# Altium schematic symbol library LPC4088.SchLib: 1 symbol
Pins are listed as number, name and electrical type; pins without a type are passive.

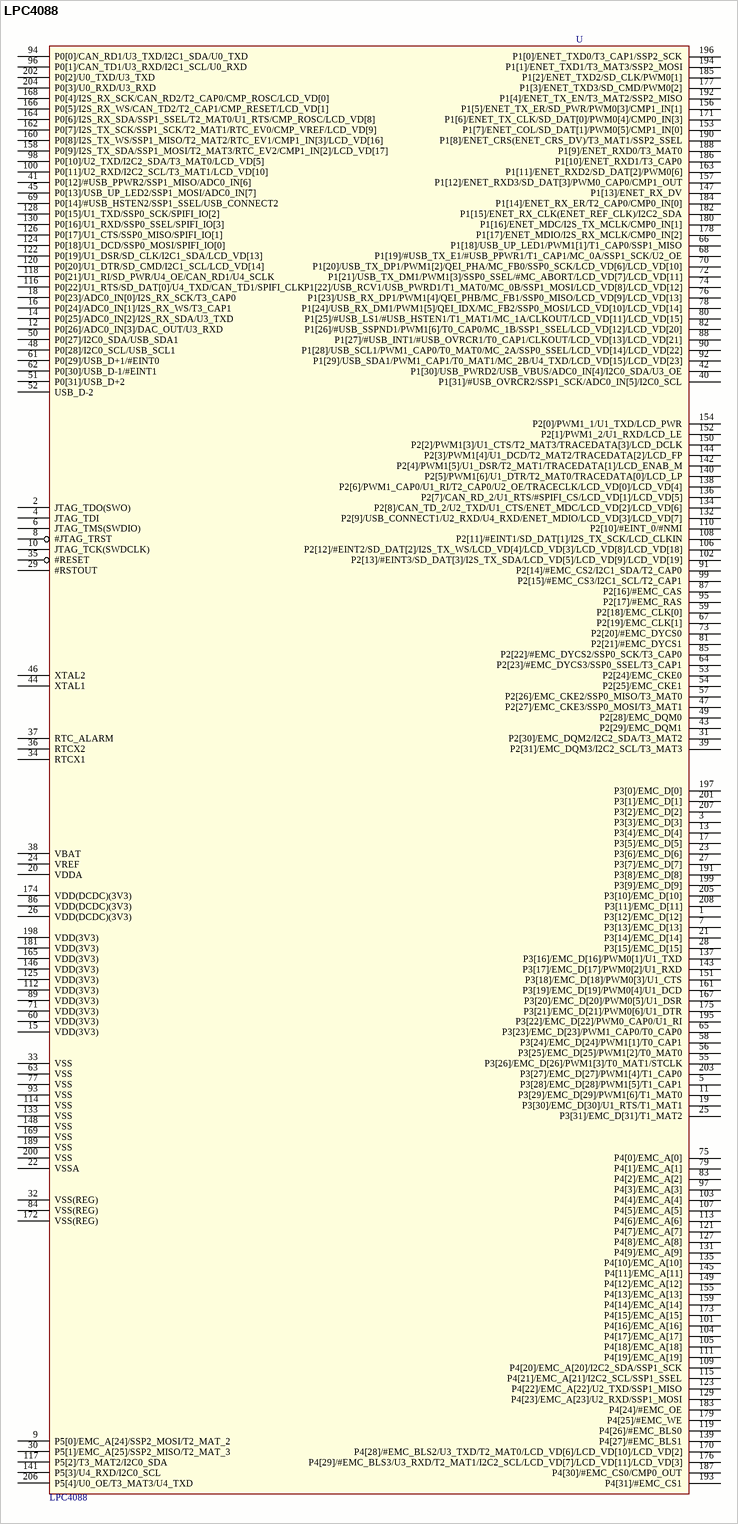
[diagram p0: symbol LPC4088]

## LPC4088
designator U  value LPC4088  (hidden comment: *)
Manufacturer Code: LPC4088FBD208,551; Manufacturer: NXP Semiconductors; Farnell Code: 2285014; Unit Price: 11,58 €
footprint LQFP-208 (Footprint not found)
pins: 1 P3[12]/EMC_D[12], 2 JTAG_TDO(SWO), 3 P3[3]/EMC_D[3], 4 JTAG_TDI, 5 P3[28]/EMC_D[28]/PWM1[5]/T1_CAP1, 6 JTAG_TMS(SWDIO), 7 P3[13]/EMC_D[13], 8 #JTAG_TRST, 9 P5[0]/EMC_A[24]/SSP2_MOSI/T2_MAT_2, 10 JTAG_TCK(SWDCLK), 11 P3[29]/EMC_D[29]/PWM1[6]/T1_MAT0, 12 P0[26]/ADC0_IN[3]/DAC_OUT/U3_RXD, 13 P3[4]/EMC_D[4], 14 P0[25]/ADC0_IN[2]/I2S_RX_SDA/U3_TXD, 15 VDD(3V3), 16 P0[24]/ADC0_IN[1]/I2S_RX_WS/T3_CAP1, 17 P3[5]/EMC_D[5], 18 P0[23]/ADC0_IN[0]/I2S_RX_SCK/T3_CAP0, 19 P3[30]/EMC_D[30]/U1_RTS/T1_MAT1, 20 VDDA, 21 P3[14]/EMC_D[14], 22 VSSA, 23 P3[6]/EMC_D[6], 24 VREF, 25 P3[31]/EMC_D[31]/T1_MAT2, 26 VDD(DCDC)(3V3), 27 P3[7]/EMC_D[7], 28 P3[15]/EMC_D[15], 29 #RSTOUT, 30 P5[1]/EMC_A[25]/SSP2_MISO/T2_MAT_3, 31 P2[30]/EMC_DQM2/I2C2_SDA/T3_MAT2, 32 VSS(REG), 33 VSS, 34 RTCX1, 35 #RESET, 36 RTCX2, 37 RTC_ALARM, 38 VBAT, 39 P2[31]/EMC_DQM3/I2C2_SCL/T3_MAT3, 40 P1[31]/#USB_OVRCR2/SSP1_SCK/ADC0_IN[5]/I2C0_SCL, 41 P0[12]/#USB_PPWR2/SSP1_MISO/ADC0_IN[6], 42 P1[30]/USB_PWRD2/USB_VBUS/ADC0_IN[4]/I2C0_SDA/U3_OE, 43 P2[29]/EMC_DQM1, 44 XTAL1, 45 P0[13]/USB_UP_LED2/SSP1_MOSI/ADC0_IN[7], 46 XTAL2, 47 P2[27]/EMC_CKE3/SSP0_MOSI/T3_MAT1, 48 P0[28]/I2C0_SCL/USB_SCL1, 49 P2[28]/EMC_DQM0, 50 P0[27]/I2C0_SDA/USB_SDA1, 51 P0[31]/USB_D+2, 52 USB_D-2, 53 P2[24]/EMC_CKE0, 54 P2[25]/EMC_CKE1, 55 P3[26]/EMC_D[26]/PWM1[3]/T0_MAT1/STCLK, 56 P3[25]/EMC_D[25]/PWM1[2]/T0_MAT0, 57 P2[26]/EMC_CKE2/SSP0_MISO/T3_MAT0, 58 P3[24]/EMC_D[24]/PWM1[1]/T0_CAP1, 59 P2[18]/EMC_CLK[0], 60 VDD(3V3), 61 P0[29]/USB_D+1/#EINT0, 62 P0[30]/USB_D-1/#EINT1, 63 VSS, 64 P2[23]/#EMC_DYCS3/SSP0_SSEL/T3_CAP1, 65 P3[23]/EMC_D[23]/PWM1_CAP0/T0_CAP0, 66 P1[18]/USB_UP_LED1/PWM1[1]/T1_CAP0/SSP1_MISO, 67 P2[19]/EMC_CLK[1], 68 P1[19]/#USB_TX_E1/#USB_PPWR1/T1_CAP1/MC_0A/SSP1_SCK/U2_OE, 69 P0[14]/#USB_HSTEN2/SSP1_SSEL/USB_CONNECT2, 70 P1[20]/USB_TX_DP1/PWM1[2]/QEI_PHA/MC_FB0/SSP0_SCK/LCD_VD[6]/LCD_VD[10], 71 VDD(3V3), 72 P1[21]/USB_TX_DM1/PWM1[3]/SSP0_SSEL/#MC_ABORT/LCD_VD[7]/LCD_VD[11], 73 P2[20]/#EMC_DYCS0, 74 P1[22]/USB_RCV1/USB_PWRD1/T1_MAT0/MC_0B/SSP1_MOSI/LCD_VD[8]/LCD_VD[12], 75 P4[0]/EMC_A[0], 76 P1[23]/USB_RX_DP1/PWM1[4]/QEI_PHB/MC_FB1/SSP0_MISO/LCD_VD[9]/LCD_VD[13], 77 VSS, 78 P1[24]/USB_RX_DM1/PWM1[5]/QEI_IDX/MC_FB2/SSP0_MOSI/LCD_VD[10]/LCD_VD[14], 79 P4[1]/EMC_A[1], 80 P1[25]/#USB_LS1/#USB_HSTEN1/T1_MAT1/MC_1A/CLKOUT/LCD_VD[11]/LCD_VD[15], 81 P2[21]/#EMC_DYCS1, 82 P1[26]/#USB_SSPND1/PWM1[6]/T0_CAP0/MC_1B/SSP1_SSEL/LCD_VD[12]/LCD_VD[20], 83 P4[2]/EMC_A[2], 84 VSS(REG), 85 P2[22]/#EMC_DYCS2/SSP0_SCK/T3_CAP0, 86 VDD(DCDC)(3V3), 87 P2[16]/#EMC_CAS, 88 P1[27]/#USB_INT1/#USB_OVRCR1/T0_CAP1/CLKOUT/LCD_VD[13]/LCD_VD[21], 89 VDD(3V3), 90 P1[28]/USB_SCL1/PWM1_CAP0/T0_MAT0/MC_2A/SSP0_SSEL/LCD_VD[14]/LCD_VD[22], 91 P2[14]/#EMC_CS2/I2C1_SDA/T2_CAP0, 92 P1[29]/USB_SDA1/PWM1_CAP1/T0_MAT1/MC_2B/U4_TXD/LCD_VD[15]/LCD_VD[23], 93 VSS, 94 P0[0]/CAN_RD1/U3_TXD/I2C1_SDA/U0_TXD, 95 P2[17]/#EMC_RAS, 96 P0[1]/CAN_TD1/U3_RXD/I2C1_SCL/U0_RXD, 97 P4[3]/EMC_A[3], 98 P0[10]/U2_TXD/I2C2_SDA/T3_MAT0/LCD_VD[5], 99 P2[15]/#EMC_CS3/I2C1_SCL/T2_CAP1, 100 P0[11]/U2_RXD/I2C2_SCL/T3_MAT1/LCD_VD[10], 101 P4[16]/EMC_A[16], 102 P2[13]/#EINT3/SD_DAT[3]/I2S_TX_SDA/LCD_VD[5]/LCD_VD[9]/LCD_VD[19], 103 P4[4]/EMC_A[4], 104 P4[17]/EMC_A[17], 105 P4[18]/EMC_A[18], 106 P2[12]/#EINT2/SD_DAT[2]/I2S_TX_WS/LCD_VD[4]/LCD_VD[3]/LCD_VD[8]/LCD_VD[18], 107 P4[5]/EMC_A[5], 108 P2[11]/#EINT1/SD_DAT[1]/I2S_TX_SCK/LCD_CLKIN, 109 P4[20]/EMC_A[20]/I2C2_SDA/SSP1_SCK, 110 P2[10]/#EINT_0/#NMI, 111 P4[19]/EMC_A[19], 112 VDD(3V3), 113 P4[6]/EMC_A[6], 114 VSS, 115 P4[21]/EMC_A[21]/I2C2_SCL/SSP1_SSEL, 116 P0[22]/U1_RTS/SD_DAT[0]/U4_TXD/CAN_TD1/SPIFI_CLK, 117 P5[2]/T3_MAT2/I2C0_SDA, 118 P0[21]/U1_RI/SD_PWR/U4_OE/CAN_RD1/U4_SCLK, 119 P4[26]/#EMC_BLS0, 120 P0[20]/U1_DTR/SD_CMD/I2C1_SCL/LCD_VD[14], 121 P4[7]/EMC_A[7], 122 P0[19]/U1_DSR/SD_CLK/I2C1_SDA/LCD_VD[13], 123 P4[22]/EMC_A[22]/U2_TXD/SSP1_MISO, 124 P0[18]/U1_DCD/SSP0_MOSI/SPIFI_IO[0], 125 VDD(3V3), 126 P0[17]/U1_CTS/SSP0_MISO/SPIFI_IO[1], 127 P4[8]/EMC_A[8], 128 P0[15]/U1_TXD/SSP0_SCK/SPIFI_IO[2], 129 P4[23]/EMC_A[23]/U2_RXD/SSP1_MOSI, 130 P0[16]/U1_RXD/SSP0_SSEL/SPIFI_IO[3], 131 P4[9]/EMC_A[9], 132 P2[9]/USB_CONNECT1/U2_RXD/U4_RXD/ENET_MDIO/LCD_VD[3]/LCD_VD[7], 133 VSS, 134 P2[8]/CAN_TD_2/U2_TXD/U1_CTS/ENET_MDC/LCD_VD[2]/LCD_VD[6], 135 P4[10]/EMC_A[10], 136 P2[7]/CAN_RD_2/U1_RTS/#SPIFI_CS/LCD_VD[1]/LCD_VD[5], 137 P3[16]/EMC_D[16]/PWM0[1]/U1_TXD, 138 P2[6]/PWM1_CAP0/U1_RI/T2_CAP0/U2_OE/TRACECLK/LCD_VD[0]/LCD_VD[4], 139 P4[27]/#EMC_BLS1, 140 P2[5]/PWM1[6]/U1_DTR/T2_MAT0/TRACEDATA[0]/LCD_LP, 141 P5[3]/U4_RXD/I2C0_SCL, 142 P2[4]/PWM1[5]/U1_DSR/T2_MAT1/TRACEDATA[1]/LCD_ENAB_M, 143 P3[17]/EMC_D[17]/PWM0[2]/U1_RXD, 144 P2[3]/PWM1[4]/U1_DCD/T2_MAT2/TRACEDATA[2]/LCD_FP, 145 P4[11]/EMC_A[11], 146 VDD(3V3), 147 P1[13]/ENET_RX_DV, 148 VSS, 149 P4[12]/EMC_A[12], 150 P2[2]/PWM1[3]/U1_CTS/T2_MAT3/TRACEDATA[3]/LCD_DCLK, 151 P3[18]/EMC_D[18]/PWM0[3]/U1_CTS, 152 P2[1]/PWM1_2/U1_RXD/LCD_LE, 153 P1[7]/ENET_COL/SD_DAT[1]/PWM0[5]/CMP1_IN[0], 154 P2[0]/PWM1_1/U1_TXD/LCD_PWR, 155 P4[13]/EMC_A[13], 156 P1[5]/ENET_TX_ER/SD_PWR/PWM0[3]/CMP1_IN[1], 157 P1[12]/ENET_RXD3/SD_DAT[3]/PWM0_CAP0/CMP1_OUT, 158 P0[9]/I2S_TX_SDA/SSP1_MOSI/T2_MAT3/RTC_EV2/CMP1_IN[2]/LCD_VD[17], 159 P4[14]/EMC_A[14], 160 P0[8]/I2S_TX_WS/SSP1_MISO/T2_MAT2/RTC_EV1/CMP1_IN[3]/LCD_VD[16], 161 P3[19]/EMC_D[19]/PWM0[4]/U1_DCD, 162 P0[7]/I2S_TX_SCK/SSP1_SCK/T2_MAT1/RTC_EV0/CMP_VREF/LCD_VD[9], 163 P1[11]/ENET_RXD2/SD_DAT[2]/PWM0[6], 164 P0[6]/I2S_RX_SDA/SSP1_SSEL/T2_MAT0/U1_RTS/CMP_ROSC/LCD_VD[8], 165 VDD(3V3), 166 P0[5]/I2S_RX_WS/CAN_TD2/T2_CAP1/CMP_RESET/LCD_VD[1], 167 P3[20]/EMC_D[20]/PWM0[5]/U1_DSR, 168 P0[4]/I2S_RX_SCK/CAN_RD2/T2_CAP0/CMP_ROSC/LCD_VD[0], 169 VSS, 170 P4[28]/#EMC_BLS2/U3_TXD/T2_MAT0/LCD_VD[6]/LCD_VD[10]/LCD_VD[2], 171 P1[6]/ENET_TX_CLK/SD_DAT[0]/PWM0[4]/CMP0_IN[3], 172 VSS(REG), 173 P4[15]/EMC_A[15], 174 VDD(DCDC)(3V3), 175 P3[21]/EMC_D[21]/PWM0[6]/U1_DTR, 176 P4[29]/#EMC_BLS3/U3_RXD/T2_MAT1/I2C2_SCL/LCD_VD[7]/LCD_VD[11]/LCD_VD[3], 177 P1[3]/ENET_TXD3/SD_CMD/PWM0[2], 178 P1[17]/ENET_MDIO/I2S_RX_MCLK/CMP0_IN[2], 179 P4[25]/#EMC_WE, 180 P1[16]/ENET_MDC/I2S_TX_MCLK/CMP0_IN[1], 181 VDD(3V3), 182 P1[15]/ENET_RX_CLK(ENET_REF_CLK)/I2C2_SDA, 183 P4[24]/#EMC_OE, 184 P1[14]/ENET_RX_ER/T2_CAP0/CMP0_IN[0], 185 P1[2]/ENET_TXD2/SD_CLK/PWM0[1], 186 P1[10]/ENET_RXD1/T3_CAP0, 187 P4[30]/#EMC_CS0/CMP0_OUT, 188 P1[9]/ENET_RXD0/T3_MAT0, 189 VSS, 190 P1[8]/ENET_CRS(ENET_CRS_DV)/T3_MAT1/SSP2_SSEL, 191 P3[8]/EMC_D[8], 192 P1[4]/ENET_TX_EN/T3_MAT2/SSP2_MISO, 193 P4[31]/#EMC_CS1, 194 P1[1]/ENET_TXD1/T3_MAT3/SSP2_MOSI, 195 P3[22]/EMC_D[22]/PWM0_CAP0/U1_RI, 196 P1[0]/ENET_TXD0/T3_CAP1/SSP2_SCK, 197 P3[0]/EMC_D[0], 198 VDD(3V3), 199 P3[9]/EMC_D[9], 200 VSS, 201 P3[1]/EMC_D[1], 202 P0[2]/U0_TXD/U3_TXD, 203 P3[27]/EMC_D[27]/PWM1[4]/T1_CAP0, 204 P0[3]/U0_RXD/U3_RXD, 205 P3[10]/EMC_D[10], 206 P5[4]/U0_OE/T3_MAT3/U4_TXD, 207 P3[2]/EMC_D[2], 208 P3[11]/EMC_D[11]